# EAGLE library part MAX17047G+T10 (library MOTO_LIB)
Fuel Guage
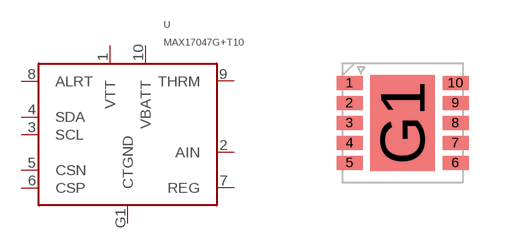
[diagram p14: symbol with the pads of DFN3X3_PS0_5P11; footprint DFN3X3_PS0_5P11]

Designator prefix -

## MAX17047G+T10 (MPN: MAX17047G+T10; SUPPLIER: MAXIM)  [DFN3X3_PS0_5P11]
1  VTT
2  AIN
3  SCL
4  SDA
5  CSN
6  CSP
7  REG
8  ALRT
9  THRM
10  VBATT
G1  CTGND

## Footprint DFN3X3_PS0_5P11 (pad centres in mm)
smd 0.65 x 0.35: 1 -1.325,1; 2 -1.325,0.5; 3 -1.325,0; 4 -1.325,-0.5; 5 -1.325,-1; 6 1.325,-1; 7 1.325,-0.5; 8 1.325,0; 9 1.325,0.5; 10 1.325,1
smd 1.6 x 2.4: G1 0,0